# Altium footprint library MiniFrogFC_lib.PcbLib: 24 footprints (part 1 of 2)
Each footprint in its own frame and in the unit in brackets; x right, y up, seen from the top. Pads: shape width x height; smd on the part's side, far side on the other; paste and mask are expansions set on the pad; w line width, h text height; cw(c..) or ccw(c..) is an arc to the next point about the centre after c.
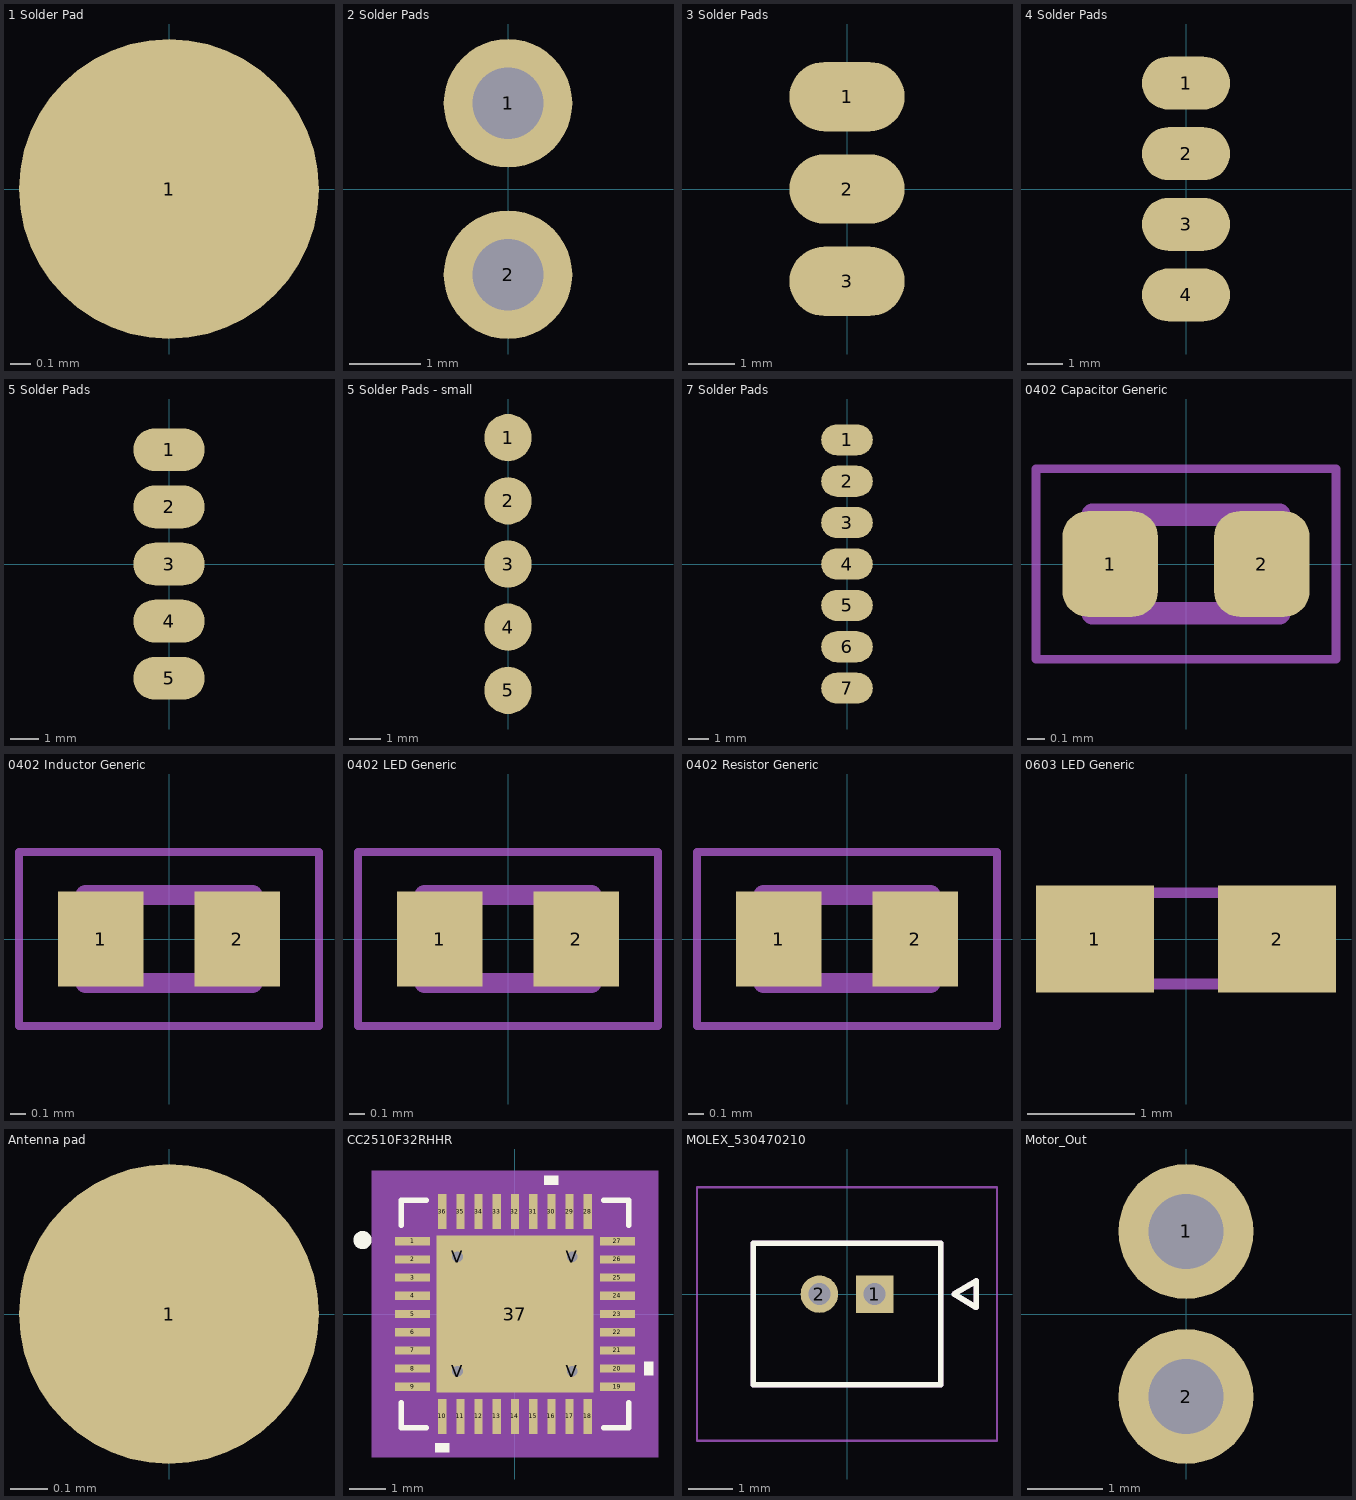
[diagram p0: the footprints below, top view; thin cyan lines are the x and y axes]

## 1 Solder Pad [mm]
pads (1):
  round 1.5 smd: 1(0,0)

## 2 Solder Pads [mm]
pads (2):
  round 1.8 hole 1: 1(0,1.2) 2(0,-1.2)

## 3 Solder Pads [mm]
pads (3):
  oval 2.5x1.5 smd: 1(0,2) 2(0,0) 3(0,-2)

## 4 Solder Pads [mm]
pads (4):
  oval 2.5x1.5 smd: 1(0,3) 2(0,1) 3(0,-1) 4(0,-3)

## 5 Solder Pads [mm]
pads (5):
  oval 2.5x1.5 smd: 1(0,4) 2(0,2) 3(0,0) 4(0,-2) 5(0,-4)

## 5 Solder Pads - small [mm]
pads (5):
  round 1.5 smd: 1(0,4) 2(0,2) 3(0,0) 4(0,-2) 5(0,-4)

## 7 Solder Pads [mm]
pads (7):
  oval 2.5x1.5 smd: 1(0,6) 2(0,4) 3(0,2) 4(0,0) 5(0,-2) 6(0,-4) 7(0,-6)

## 0402 Capacitor Generic [mm]
pads (2):
  rrect53% 0.54x0.6 smd: 1(-0.43,0) 2(0.43,0)
Mechanical 13:
  lines w0.127: -0.53,-0.28 -0.53,0.28 0.53,0.28 0.53,-0.28 -0.53,-0.28
Mechanical 15:
  lines w0.05: -0.85,-0.54 -0.85,0.54 0.85,0.54 0.85,-0.54 -0.85,-0.54
3D body "csmd-0402_l1_w0-5_h0-5.stp": height 0.5, standoff 0, extent -0.5,-0.25 0.5,0.25

## 0402 Inductor Generic [mm]
pads (2):
  rect 0.54x0.6 smd: 1(-0.432,0) 2(0.432,0)
Mechanical 13:
  lines w0.127: -0.53,-0.28 0.53,-0.28 0.53,0.28 -0.53,0.28 -0.53,-0.28
Mechanical 15:
  lines w0.05: -0.95,-0.55 0.95,-0.55 0.95,0.55 -0.95,0.55 -0.95,-0.55
3D body "MLG1005S15NJT000.STEP": height 0.5, standoff 0, extent -0.5,-0.28 0.5,0.27

## 0402 LED Generic [mm]
pads (2):
  rect 0.54x0.6 smd: 1(-0.432,0) 2(0.432,0)
Mechanical 13:
  lines w0.127: -0.53,-0.28 0.53,-0.28 0.53,0.28 -0.53,0.28 -0.53,-0.28
Mechanical 15:
  lines w0.05: -0.95,-0.55 0.95,-0.55 0.95,0.55 -0.95,0.55 -0.95,-0.55
3D body "XZxx68x-2.step": height 0.5, standoff 0, extent -0.5,-0.25 0.5,0.25

## 0402 Resistor Generic [mm]
pads (2):
  rect 0.54x0.6 smd: 1(-0.432,0) 2(0.432,0)
Mechanical 13:
  lines w0.127: -0.53,-0.28 0.53,-0.28 0.53,0.28 -0.53,0.28 -0.53,-0.28
Mechanical 15:
  lines w0.05: -0.95,-0.55 0.95,-0.55 0.95,0.55 -0.95,0.55 -0.95,-0.55
3D body "rsmd-0402_l1_w0-5_h0-32.stp": height 0.32, standoff 0, extent -0.5,-0.25 0.5,0.25

## 0603 LED Generic [mm]
pads (2):
  rect 1.1x1 smd: 1(-0.85,0) 2(0.85,0)
Mechanical 13:
  region: -0.338,-0.47 -0.838,-0.47 -0.838,0.48 -0.338,0.48
  region: 0.83,-0.471 0.331,-0.471 0.331,0.48 0.83,0.48
  lines w0.102: -0.356,-0.419 0.356,-0.419 ; -0.356,0.432 0.356,0.432
3D body "LED Green SMD 0603 Würth 150060BS55040.stp": height 0.4, standoff 0, extent -0.8,-0.4 0.8,0.4

## Antenna pad [mm]
pads (1):
  round 0.8 smd: 1(0,0)

## CC2510F32RHHR [mm]
pads (41):
  rect 0.96x0.225 smd paste+0 mask+0: 1(-2.817,2) 2(-2.817,1.5) 3(-2.817,1) 4(-2.817,0.5) 5(-2.817,0) 6(-2.817,-0.5) 7(-2.817,-1) 8(-2.817,-1.5) 9(-2.817,-2) 19(2.817,-2) 20(2.817,-1.5) 21(2.817,-1) 22(2.817,-0.5) 23(2.817,0) 24(2.817,0.5) 25(2.817,1) 26(2.817,1.5) 27(2.817,2)
  rect 0.225x0.96 smd paste+0 mask+0: 10(-2,-2.817) 11(-1.5,-2.817) 12(-1,-2.817) 13(-0.5,-2.817) 14(0,-2.817) 15(0.5,-2.817) 16(1,-2.817) 17(1.5,-2.817) 18(2,-2.817) 28(2,2.817) 29(1.5,2.817) 30(1,2.817) 31(0.5,2.817) 32(0,2.817) 33(-0.5,2.817) 34(-1,2.817) 35(-1.5,2.817) 36(-2,2.817)
  rect 4.318x4.318 smd paste-2.146 mask-2.146: 37(0,0)
  round 0.6 hole 0.3: V(-1.575,-1.575) V(-1.575,1.575) V(1.575,-1.575) V(1.575,1.575)
Top Overlay:
  circle w0.25: c-4.191,2.032 r0.125
  region: 1.191,3.551 0.81,3.551 0.81,3.805 1.191,3.805
  region: 3.551,-1.309 3.805,-1.309 3.805,-1.69 3.551,-1.69
  region: -1.81,-3.551 -2.191,-3.551 -2.191,-3.805 -1.81,-3.805
  lines w0.152: -3.124,-2.445 -3.124,-3.124 -2.445,-3.124 ; -3.124,2.445 -3.124,3.124 -2.445,3.124 ; 2.445,-3.124 3.124,-3.124 3.124,-2.445 ; 2.445,3.124 3.124,3.124 3.124,2.445
Top Paste:
  drawing of 36 lines, arcs and shapes, not listed
Top Solder:
  region: 1.775,-2.222 1.775,2.222 2.222,2.222 2.222,-2.222
  region: 1.375,-2.222 1.375,2.222 0.987,2.222 0.987,-2.222
  region: 0.587,-2.222 0.587,2.222 0.2,2.222 0.2,-2.222
  region: -0.2,-2.222 -0.2,2.222 -0.587,2.222 -0.587,-2.222
  region: -0.987,-2.222 -0.987,2.222 -1.375,2.222 -1.375,-2.222
  region: -2.222,-2.222 -2.222,2.222 -1.775,2.222 -1.775,-2.222
  region: -2.222,-2.222 -2.222,-1.775 2.222,-1.775 2.222,-2.222
  region: -2.222,-1.375 -2.222,-0.987 2.222,-0.987 2.222,-1.375
  region: -2.222,-0.587 -2.222,-0.2 2.222,-0.2 2.222,-0.587
  region: -2.222,0.2 -2.222,0.587 2.222,0.587 2.222,0.2
  region: -2.222,0.987 -2.222,1.375 2.222,1.375 2.222,0.987
  region: -2.222,1.775 -2.222,2.222 2.222,2.222 2.222,1.775
Mechanical 5:
  region: 3.932,-3.932 -3.932,-3.932 -3.932,3.932 3.932,3.932
Mechanical 13:
  lines w0.025: -2.997,1.727 -1.727,2.997 ; -2.997,-2.997 -2.997,2.997 2.997,2.997 2.997,-2.997 -2.997,-2.997 ; -2.997,-2.152 -2.997,-1.848 -2.997,-2.152 ; -2.997,-1.652 -2.997,-1.348 -2.997,-1.652 ; -2.997,-1.152 -2.997,-0.848 -2.997,-1.152 ; -2.997,-0.652 -2.997,-0.348 -2.997,-0.652 ; -2.997,-0.152 -2.997,0.152 -2.997,-0.152 ; -2.997,0.348 -2.997,0.652 -2.997,0.348 ; -2.997,0.848 -2.997,1.152 -2.997,0.848 ; -2.997,1.348 -2.997,1.652 -2.997,1.348 ; -2.997,1.848 -2.997,2.152 -2.997,1.848 ; -2.152,-2.997 -1.848,-2.997 -2.152,-2.997 ; -2.152,2.997 -1.848,2.997 -2.152,2.997 ; -1.652,-2.997 -1.348,-2.997 -1.652,-2.997 ; -1.652,2.997 -1.348,2.997 -1.652,2.997 ; -1.152,-2.997 -0.848,-2.997 -1.152,-2.997 ; -1.152,2.997 -0.848,2.997 -1.152,2.997 ; -0.652,-2.997 -0.348,-2.997 -0.652,-2.997 ; -0.652,2.997 -0.348,2.997 -0.652,2.997 ; -0.152,-2.997 0.152,-2.997 -0.152,-2.997 ; -0.152,2.997 0.152,2.997 -0.152,2.997 ; 0.348,-2.997 0.652,-2.997 0.348,-2.997 ; 0.348,2.997 0.652,2.997 0.348,2.997 ; 0.848,-2.997 1.152,-2.997 0.848,-2.997 ; 0.848,2.997 1.152,2.997 0.848,2.997 ; 1.348,-2.997 1.652,-2.997 1.348,-2.997 ; 1.348,2.997 1.652,2.997 1.348,2.997 ; 1.848,-2.997 2.152,-2.997 1.848,-2.997 ; 1.848,2.997 2.152,2.997 1.848,2.997 ; 2.997,-2.152 2.997,-1.848 2.997,-2.152 ; 2.997,-1.652 2.997,-1.348 2.997,-1.652 ; 2.997,-1.152 2.997,-0.848 2.997,-1.152 ; 2.997,-0.652 2.997,-0.348 2.997,-0.652 ; 2.997,-0.152 2.997,0.152 2.997,-0.152 ; 2.997,0.348 2.997,0.652 2.997,0.348 ; 2.997,0.848 2.997,1.152 2.997,0.848 ; 2.997,1.348 2.997,1.652 2.997,1.348 ; 2.997,1.848 2.997,2.152 2.997,1.848
  text "*" at -2.654,1.615 h1.27
Mechanical 15:
  region: -2.366,-3.251 -3.251,-3.251 -3.251,-2.366 -3.551,-2.366 -3.551,2.366 -3.251,2.366 -3.251,3.251 -2.366,3.251 -2.366,3.551 2.366,3.551 2.366,3.251 3.251,3.251 3.251,2.366 3.551,2.366 3.551,-2.366 3.251,-2.366 3.251,-3.251 2.366,-3.251 2.366,-3.551 -2.366,-3.551
  lines w0.152: -3.551,-2.366 -3.551,2.366 -3.251,2.366 -3.251,3.251 -2.366,3.251 -2.366,3.551 2.366,3.551 2.366,3.251 3.251,3.251 3.251,2.366 3.551,2.366 3.551,-2.366 3.251,-2.366 3.251,-3.251 2.366,-3.251 2.366,-3.551 -2.366,-3.551 -2.366,-3.251 -3.251,-3.251 -3.251,-2.366 -3.551,-2.366
3D body: height 0.25, standoff 0, extent 0,0 0.254,0.254
3D body "CC2510F16RHHR.stp": height 1, standoff 0, extent -3,-3 3,3

## MOLEX_530470210 [mm]
pads (2):
  rect 0.85x0.85 hole 0.5 mask+0.076: 1(0.625,0)
  round 0.85 hole 0.5 mask+0.076: 2(-0.625,0)
Top Overlay:
  lines w0.127: -2.125,-2.05 2.125,-2.05 2.125,1.15 -2.125,1.15 -2.125,-2.05 ; 2.425,0 2.925,-0.3 2.925,0.3 2.425,0
Bottom Solder:
  circle w0.501: c-0.625,0 r0.251
  region: 1.126,-0.501 0.124,-0.501 0.124,0.501 1.126,0.501
Mechanical 13:
  lines w0.127: -2.125,-2.05 2.125,-2.05 2.125,1.15 -2.125,1.15 -2.125,-2.05 ; 2.425,0 2.925,-0.3 2.925,0.3 2.425,0
Mechanical 15:
  lines w0.05: -3.395,-3.32 3.395,-3.32 3.395,2.42 -3.395,2.42 -3.395,-3.32
3D body "step_temp.STEP": height 4.4, standoff -2.1, extent -2.125,-2.057 2.125,1.143

## Motor_Out [mm]
pads (2):
  round 1.8 hole 1: 1(0,1.1) 2(0,-1.1)